# Altium footprint library DISCRETE_T1.PcbLib: 293 footprints (part 19 of 19)
Each footprint in its own frame and in the unit in brackets; x right, y up, seen from the top. Pads: shape width x height; smd on the part's side, far side on the other; paste and mask are expansions set on the pad; w line width, h text height; cw(c..) or ccw(c..) is an arc to the next point about the centre after c.
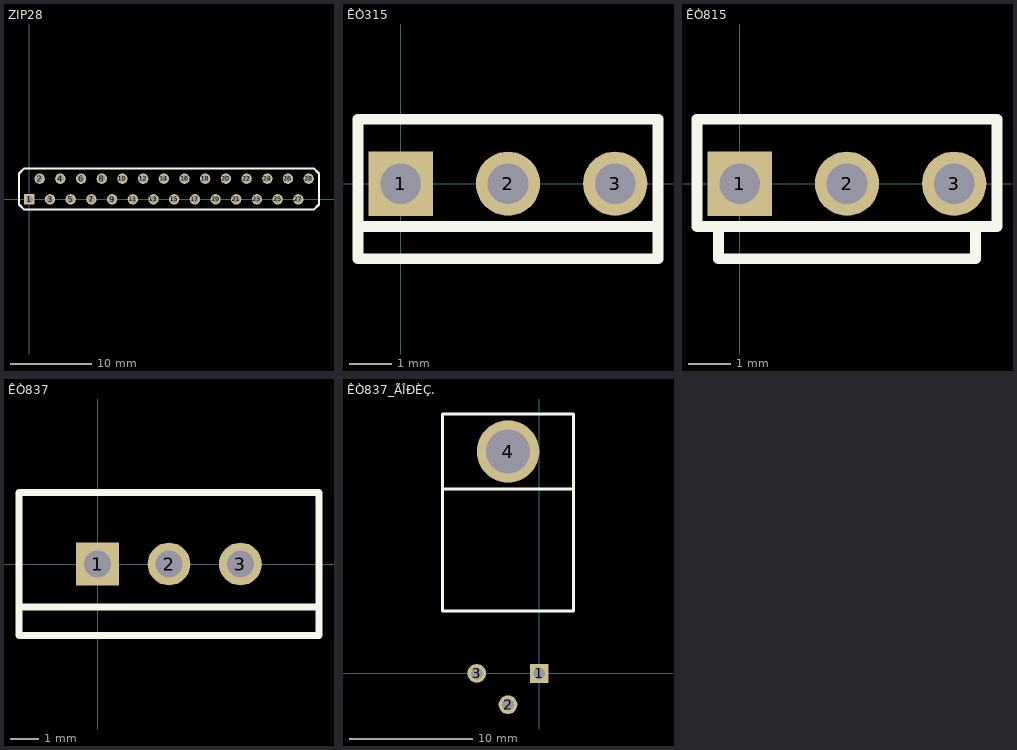
[diagram p18: the footprints below, top view; thin cyan lines are the x and y axes]

## ZIP28 [mil]
pads (28):
  rect 50x50 hole 34: 1(0,0)
  round 50 hole 34: 2(50,100) 3(100,0) 4(150,100) 5(200,0) 6(250,100) 7(300,0) 8(350,100) 9(400,0) 10(450,100) 11(500,0) 12(550,100) 13(600,0) 14(650,100) 15(700,0) 16(750,100) 17(800,0) 18(850,100) 19(900,0) 20(950,100) 21(1000,0) 22(1050,100) 23(1100,0) 24(1150,100) 25(1200,0) 26(1250,100) 27(1300,0) 28(1350,100)
Top Overlay:
  lines w10: -50,-25 -50,125 -25,150 1375,150 1400,125 1400,-25 1375,-50 -25,-50 -50,-25

## ÊÒ315 [mil]
pads (3):
  rect 60x60 hole 38: 1(0,0)
  round 60 hole 38: 2(100,0) 3(200,0)
Top Overlay:
  lines w10: -40,-40 240,-40 ; -40,-70 240,-70 240,60 -40,60 -40,-70

## ÊÒ815 [mil]
pads (3):
  rect 60x60 hole 38: 1(0,0)
  round 60 hole 38: 2(100,0) 3(200,0)
Top Overlay:
  lines w10: -20,-40 -20,-70 220,-70 220,-40 ; -40,-40 240,-40 240,60 -40,60 -40,-40

## ÊÒ837 [mil]
pads (3):
  rect 60x60 hole 38: 1(0,0)
  round 60 hole 38: 2(100,0) 3(200,0)
Top Overlay:
  lines w10: -110,-60 310,-60 ; -110,-100 310,-100 310,100 -110,100 -110,-100

## ÊÒ837_ÃÎÐÈÇ. [mil]
pads (4):
  rect 60x60 hole 38: 1(0,0)
  round 60 hole 38: 2(-100,-100) 3(-200,0)
  round 200 hole 140: 4(-100,710)
Top Overlay:
  lines w10: -310,590 110,590 ; -310,200 110,200 110,830 -310,830 -310,200